# Altium footprint library PcbLib1.PcbLib: 95 footprints (part 3 of 6)
Each footprint in its own frame and in the unit in brackets; x right, y up, seen from the top. Pads: shape width x height; smd on the part's side, far side on the other; paste and mask are expansions set on the pad; w line width, h text height; cw(c..) or ccw(c..) is an arc to the next point about the centre after c.
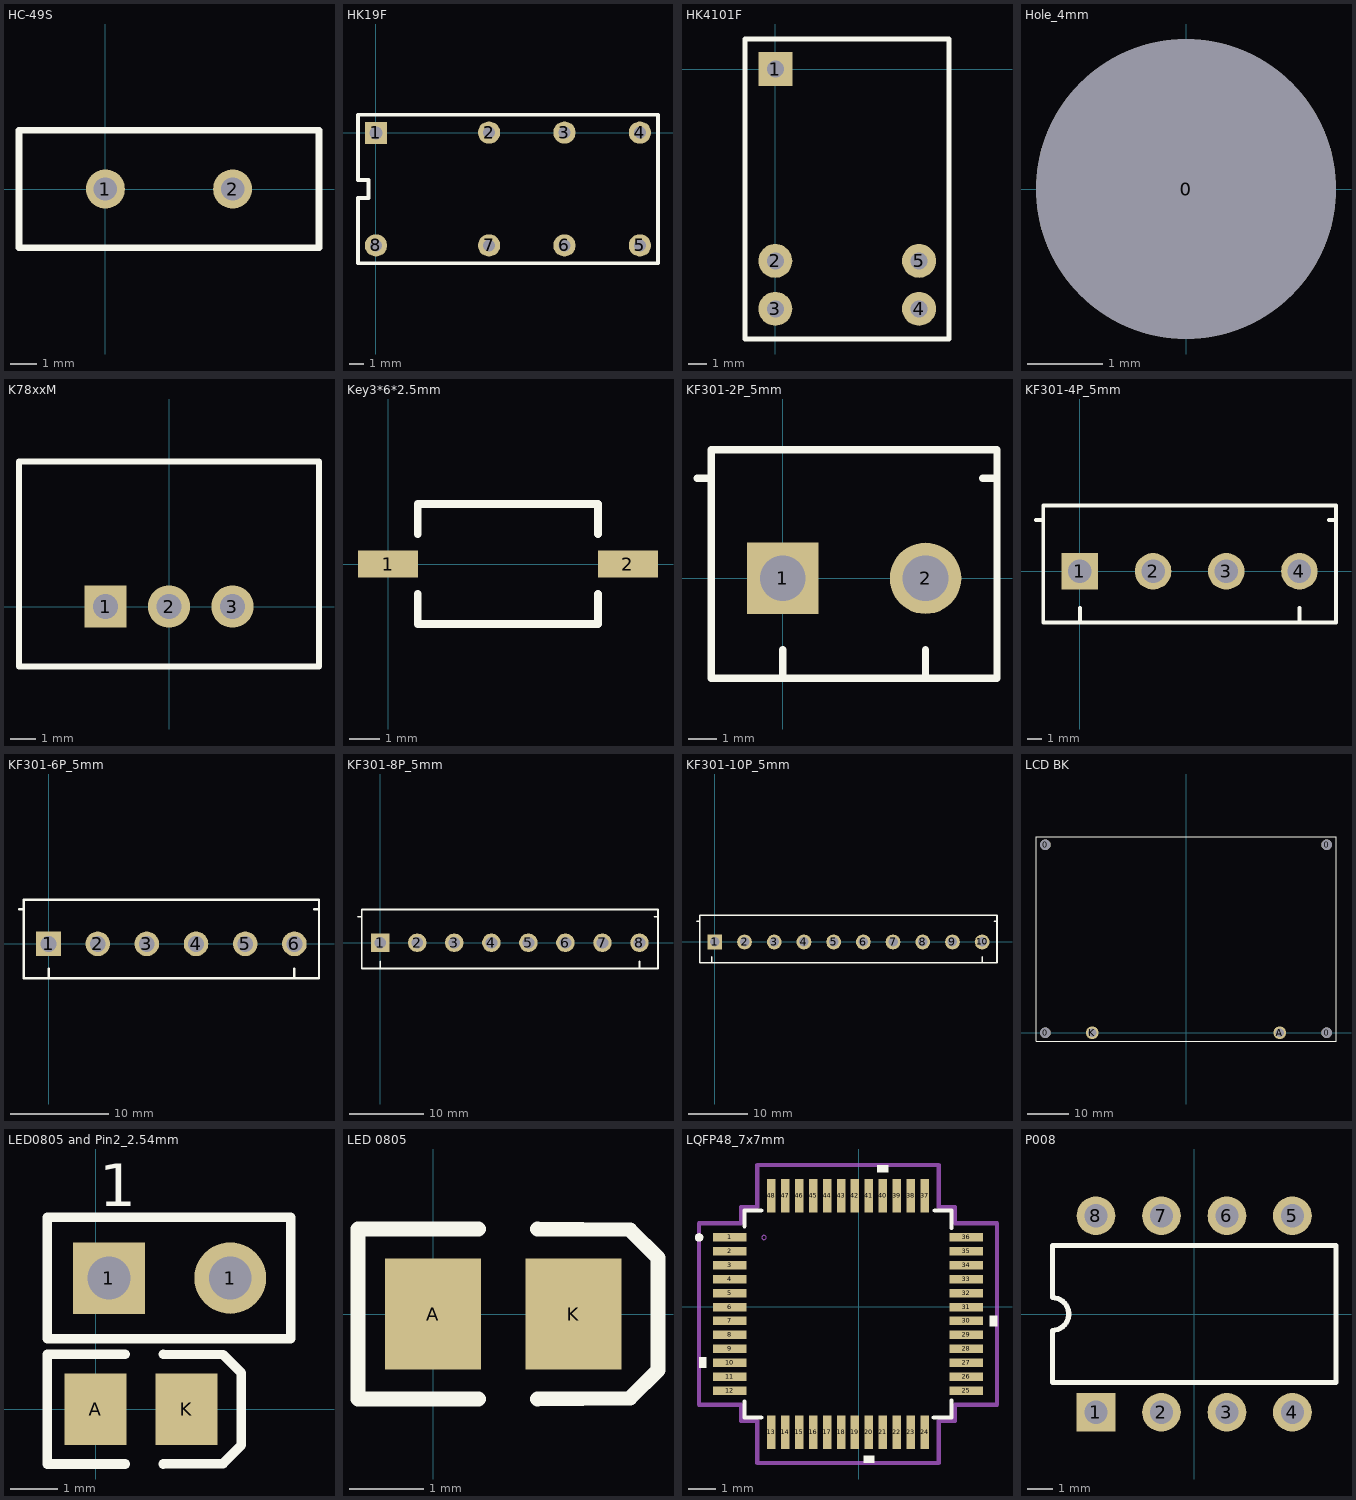
[diagram p2: the footprints below, top view; thin cyan lines are the x and y axes]

## HC-49S [mm]
height 3.68
pads (2):
  round 1.5 hole 0.9: 1(0,0) 2(4.88,0)
Top Overlay:
  lines w0.254: -3.31,-2.25 -3.31,2.25 8.19,2.25 8.19,-2.25 -3.31,-2.25

## HK19F [mm]
pads (8):
  rect 1.5x1.5 hole 0.9: 1(0,-0.025)
  round 1.5 hole 0.8: 2(7.62,0) 3(12.7,0) 4(17.78,0) 5(17.78,-7.6) 6(12.7,-7.6) 7(7.62,-7.6) 8(0,-7.6)
Top Overlay:
  lines w0.254: -1.21,-8.8 -1.21,-4.4 -0.5,-4.4 -0.5,-3.2 -1.21,-3.2 -1.21,1.2 19,1.2 19,-8.8 -1.21,-8.8

## HK4101F [mm]
pads (5):
  rect 1.8x1.8 hole 0.9: 1(0,0)
  round 1.8 hole 0.9: 2(0,-10.16) 3(0,-12.7) 4(7.62,-12.7) 5(7.62,-10.16)
Top Overlay:
  lines w0.254: -1.6,-14.3 9.2,-14.3 9.2,1.6 -1.6,1.6 -1.6,-14.3

## Hole_4mm [mm]
pads (1):
  round 4 hole 4: 0(0,0)

## K78xxM [mm]
pads (3):
  rect 1.7x1.7 hole 1: 1(-2.54,0)
  round 1.7 hole 1: 2(0,0) 3(2.54,0)
Top Overlay:
  lines w0.254: -6,-2.4 6,-2.4 6,5.8 -6,5.8 -6,-2.4

## Key3*6*2.5mm [mm]
pads (2):
  rect 2x0.9 smd: 1(0,0) 2(8,0)
Top Overlay:
  lines w0.254: 0.991,-1 0.991,-2 7,-2 7,-1 ; 0.991,1 0.991,2 7,2 7,1

## KF301-2P_5mm [mm] "W7.7mm"
height 10
pads (2):
  rect 2.5x2.5 hole 1.6: 1(0,0)
  round 2.5 hole 1.6: 2(5,0)
Top Overlay:
  lines w0.254: -3,3.5 -2.5,3.5 ; 0,-3.5 0,-2.5 ; 5,-3.5 5,-2.5 ; 7,3.5 7.5,3.5 ; -2.5,-3.5 7.5,-3.5 7.5,4.5 -2.5,4.5 -2.5,-3.5

## KF301-4P_5mm [mm] "W7.7mm"
height 10
pads (4):
  rect 2.5x2.5 hole 1.6: 1(0,0)
  round 2.5 hole 1.6: 2(5,0) 3(10,0) 4(15,0)
Top Overlay:
  lines w0.254: -3,3.5 -2.5,3.5 ; 0,-3.5 0,-2.5 ; 15,-3.5 15,-2.5 ; 17,3.5 17.5,3.5 ; -2.5,-3.5 -2.5,4.5 17.5,4.5 17.5,-3.5 -2.5,-3.5

## KF301-6P_5mm [mm] "W7.7"
height 10
pads (6):
  rect 2.5x2.5 hole 1.6: 1(0,0)
  round 2.5 hole 1.6: 2(5,0) 3(10,0) 4(15,0) 5(20,0) 6(25,0)
Top Overlay:
  lines w0.254: -3,3.5 -2.5,3.5 ; 0,-3.5 0,-2.5 ; 25,-3.5 25,-2.5 ; 27,3.5 27.5,3.5 ; -2.5,-3.5 27.5,-3.5 27.5,4.5 -2.5,4.5 -2.5,-3.5

## KF301-8P_5mm [mm] "W7.7"
height 10
pads (8):
  rect 2.5x2.5 hole 1.6: 1(0,0)
  round 2.5 hole 1.6: 2(5,0) 3(10,0) 4(15,0) 5(20,0) 6(25,0) 7(30,0) 8(35,0)
Top Overlay:
  lines w0.254: -3,3.5 -2.5,3.5 ; 0,-3.5 0,-2.5 ; 35,-3.5 35,-2.5 ; 37,3.5 37.5,3.5 ; -2.5,-3.5 -2.5,4.5 37.5,4.5 37.5,-3.5 -2.5,-3.5

## KF301-10P_5mm [mm]
pads (10):
  rect 2.5x2.5 hole 1.6: 1(0,0)
  round 2.5 hole 1.6: 2(5,0) 3(10,0) 4(15,0) 5(20,0) 6(25,0) 7(30,0) 8(35,0) 9(40,0) 10(45,0)
Top Overlay:
  lines w0.254: -3,3.5 -2.5,3.5 ; -0.5,-3.5 -0.5,-2.5 ; 45,-3.5 45,-2.5 ; 47,3.5 47.5,3.5 ; -2.5,-3.5 47.5,-3.5 47.5,4.5 -2.5,4.5 -2.5,-3.5

## LCD BK [mm]
pads (6):
  round 2.54 hole 2.54: 0(-33.75,0) 0(-33.75,45.1) 0(33.75,0) 0(33.75,45.1)
  round 3.048 hole 2.032: A(22.5,0) K(-22.5,0)
Top Overlay:
  lines w0.254: -36,-2 -36,47 36,47 36,-2 -36,-2

## LED0805 and Pin2_2.54mm [mm]
pads (4):
  rect 1.5x1.5 hole 0.9: 1(0.279,2.743)
  round 1.5 hole 0.9: 1(2.819,2.743)
  rect 1.3x1.5 smd: A(0,0) K(1.905,0)
Top Overlay:
  lines w0.2: 0.616,-1.15 -1.016,-1.15 -1.016,1.15 0.616,1.15 ; 1.416,-1.15 2.668,-1.142 3.048,-0.762 3.048,0.762 2.668,1.142 1.416,1.15 ; -1.016,1.473 4.089,1.473 4.089,4.013 -1.016,4.013 -1.016,1.473
  text "1" at 0.079,4.243 h0.89
3D body: height 0.8, standoff 0.1, extent 0,-0.737 1.905,0.737
3D body: height 1, standoff 0, extent -0.127,-0.762 0.102,0.762
3D body: height 1, standoff 0, extent 1.778,-0.762 2.032,0.762
3D body: height 2.5, standoff 0, extent -0.864,1.6 3.962,3.886
3D body: height 8, standoff -3, extent 0.025,2.489 0.533,2.997
3D body: height 8, standoff -3, extent 2.565,2.489 3.073,2.997

## LED 0805 [mm]
pads (2):
  rect 1.3x1.5 smd: A(0,0) K(1.905,0)
Top Overlay:
  lines w0.2: 0.616,-1.15 -1.016,-1.15 -1.016,1.15 0.616,1.15 ; 1.416,-1.15 2.668,-1.142 3.048,-0.762 3.048,0.762 2.668,1.142 1.416,1.15
3D body: height 1, standoff 0, extent 1.778,-0.762 2.032,0.762
3D body: height 1, standoff 0, extent -0.127,-0.762 0.102,0.762
3D body: height 0.8, standoff 0.1, extent 0,-0.737 1.905,0.737

## LQFP48_7x7mm [mil]
pads (48):
  rect 47x12 smd: 1(-182.32,98.27) 2(-182.32,78.58) 3(-182.32,58.9) 4(-182.32,39.21) 5(-182.32,19.53) 6(-182.32,-0.16) 7(-182.32,-19.84) 8(-182.32,-39.53) 9(-182.32,-59.21) 10(-182.32,-78.9) 11(-182.32,-98.58) 12(-182.32,-118.27) 25(152.32,-118.27) 26(152.32,-98.58) 27(152.32,-78.9) 28(152.32,-59.21) 29(152.32,-39.53) 30(152.32,-19.84) 31(152.32,-0.16) 32(152.32,19.53) 33(152.32,39.21) 34(152.32,58.9) 35(152.32,78.58) 36(152.32,98.27)
  rect 12x47 smd: 13(-123.27,-177.32) 14(-103.58,-177.32) 15(-83.9,-177.32) 16(-64.21,-177.32) 17(-44.53,-177.32) 18(-24.84,-177.32) 19(-5.16,-177.32) 20(14.53,-177.32) 21(34.21,-177.32) 22(53.9,-177.32) 23(73.58,-177.32) 24(93.27,-177.32) 37(93.27,157.32) 38(73.58,157.32) 39(53.9,157.32) 40(34.21,157.32) 41(14.53,157.32) 42(-5.16,157.32) 43(-24.84,157.32) 44(-44.53,157.32) 45(-64.21,157.32) 46(-83.9,157.32) 47(-103.58,157.32) 48(-123.27,157.32)
Top Overlay:
  circle w6: c-225.67,98.27 r3
  region: 41.71,190.82 26.71,190.82 26.71,200.82 41.71,200.82
  region: 185.82,-12.34 195.82,-12.34 195.82,-27.34 185.82,-27.34
  region: 22.03,-210.82 7.03,-210.82 7.03,-220.82 22.03,-220.82
  region: -215.82,-71.4 -225.82,-71.4 -225.82,-86.4 -215.82,-86.4
  lines w6: -161.5,-133.86 -161.5,-156.5 -137.8,-156.5 ; -161.5,114.17 -161.5,136.5 -137.8,136.5 ; 106.3,-156.5 131.5,-156.5 131.5,-132.28 ; 107.59,136.5 131.5,136.5 131.5,111.81
Mechanical 13:
  circle w0: c-133.82,98.27 r3
Mechanical 15:
  lines w6: -225.82,-138.27 -225.82,118.27 -166.5,118.27 -166.5,141.5 -143.27,141.5 -143.27,200.82 113.27,200.82 113.27,141.5 136.5,141.5 136.5,118.27 195.82,118.27 195.82,-138.27 136.5,-138.27 136.5,-161.5 113.27,-161.5 113.27,-220.82 -143.27,-220.82 -143.27,-161.5 -166.5,-161.5 -166.5,-138.27 -225.82,-138.27
3D body: height 63.1, standoff 0, extent -192.04,-187.04 162.04,167.04

## P008 [mm] "DIP; 8 Leads; Row Spacing 7.62 mm; Pitch 2.54 mm"
height 5.08
pads (8):
  rect 1.5x1.5 hole 0.9: 1(-3.81,-3.81)
  round 1.5 hole 0.9: 2(-1.27,-3.81) 3(1.27,-3.81) 4(3.81,-3.81) 5(3.81,3.81) 6(1.27,3.81) 7(-1.27,3.81) 8(-3.81,3.81)
Top Overlay:
  lines w0.2: -5.5,-2.65 5.5,-2.65 5.5,2.65 -5.5,2.65 -5.5,0.635 cw(c-5.5,0) -5.5,-0.635 -5.5,-2.65